# Altium footprint library CristalCuarzo.PcbLib: 4 footprints
Each footprint in its own frame and in the unit in brackets; x right, y up, seen from the top. Pads: shape width x height; smd on the part's side, far side on the other; paste and mask are expansions set on the pad; w line width, h text height; cw(c..) or ccw(c..) is an arc to the next point about the centre after c.
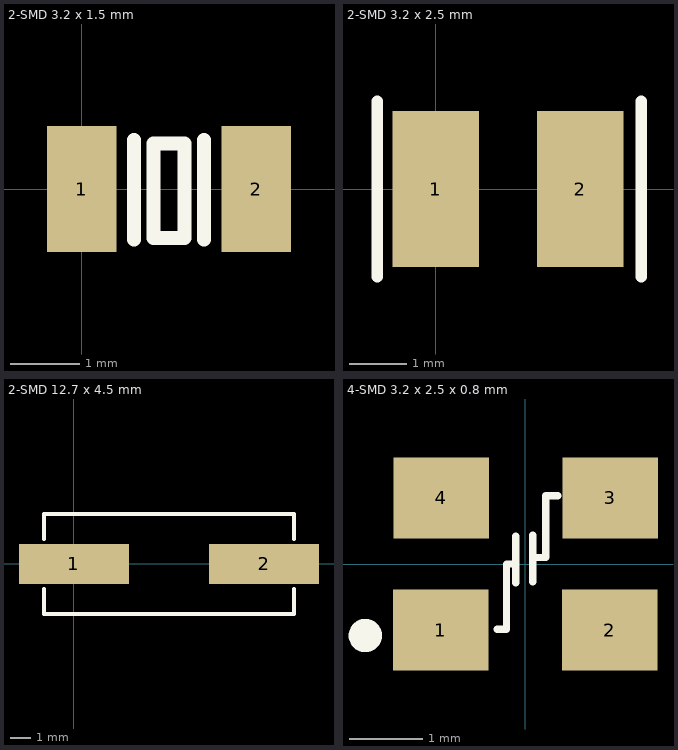
[diagram p0: the footprints below, top view; thin cyan lines are the x and y axes]

## 2-SMD 3.2 x 1.5 mm [mm]
pads (2):
  rect 1x1.8 smd: 1(0,0) 2(2.5,0)
Top Overlay:
  lines w0.2: 0.75,-0.725 0.75,0.7 ; 1.75,-0.725 1.75,0.7 ; 1.025,-0.7 1.475,-0.7 1.475,0.65 1.025,0.65 1.025,-0.7
3D body "XTAL - NDK_NX3215SA-32.748khz.STEP": height 0.78, standoff 0, extent -0.282,-0.725 2.732,0.789

## 2-SMD 3.2 x 2.5 mm [mm]
pads (2):
  rect 1.5x2.7 smd: 1(0,0) 2(2.5,0)
Top Overlay:
  lines w0.2: -1.016,-1.524 -1.016,1.524 ; 3.556,-1.524 3.556,1.524
3D body "XTAL - NX3225GD-8MHZ.STEP": height 0.75, standoff 0, extent -0.279,-1.25 2.921,1.25

## 2-SMD 12.7 x 4.5 mm [mm]
pads (2):
  rect 5.5x2 smd: 1(0,0) 2(9.5,0)
Top Overlay:
  lines w0.2: -1.5,-1.25 -1.5,-2.5 11,-2.5 11,-1.25 ; -1.5,1.25 -1.5,2.5 11,2.5 11,1.25
3D body "CristalCuarzo - 12.7x4.5.STEP": height 4, standoff 0, extent -1.5,-2.4 11,2.4

## 4-SMD 3.2 x 2.5 x 0.8 mm [mm]
pads (4):
  rect 1.3x1.1 smd: 1(-1.153,-0.9) 2(1.147,-0.9) 3(1.154,0.9) 4(-1.146,0.9)
Top Overlay:
  circle w0.254: c-2.176,-0.973 r0.1
  lines w0.1: -0.384,-0.889 -0.257,-0.889 -0.257,0 -0.194,0 ; -0.13,-0.254 -0.13,0.381 ; 0.098,-0.241 0.098,0.394 ; 0.111,0.089 0.276,0.089 0.276,0.927 0.441,0.927
3D body "Cristal Cuarzo - 8mhz ECX-32.STEP": height 0.82, standoff 0, extent -1.603,-1.25 1.597,1.25